# Altium footprint library R20_PCBM.PcbLib: 22 footprints (part 3 of 5)
Each footprint in its own frame and in the unit in brackets; x right, y up, seen from the top. Pads: shape width x height; smd on the part's side, far side on the other; paste and mask are expansions set on the pad; w line width, h text height; cw(c..) or ccw(c..) is an arc to the next point about the centre after c.
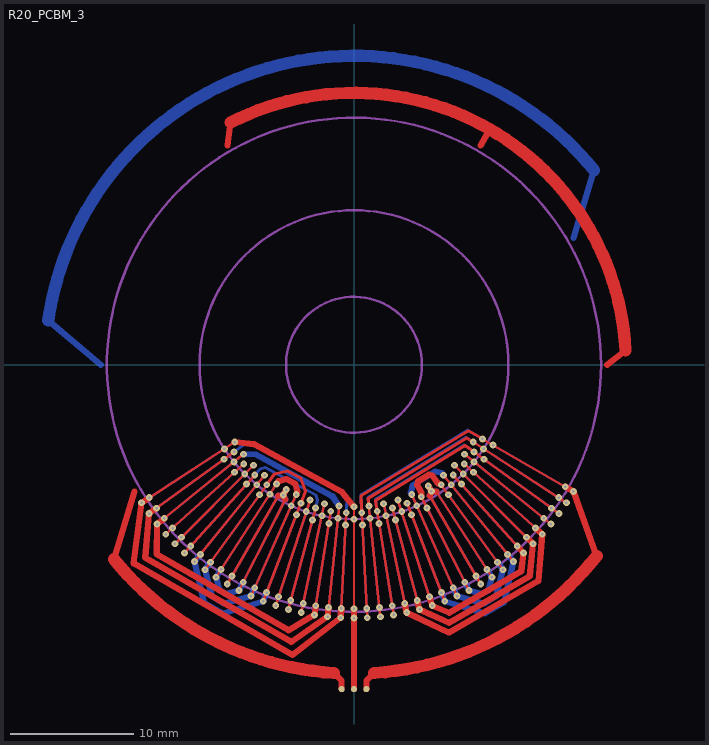
[diagram p2: the footprint, top view; thin cyan lines are the x and y axes]

## R20_PCBM_3 [mm]
pads (3):
  round 0.5 smd paste-2539.97 mask+0.102: A(1,-26.25) B(0,-26.25) C(-1,-26.25)
via 0,-20.5 diameter 0.55 hole 0.2
via 17.754,-10.25 diameter 0.55 hole 0.2
via 10.25,-17.754 diameter 0.55 hole 0.2
via -10.25,-17.754 diameter 0.55 hole 0.2
via 10.392,-6 diameter 0.55 hole 0.2
via 9.645,-6.263 diameter 0.55 hole 0.2
via 4.3,-11.203 diameter 0.55 hole 0.2
via 1.202,-11.437 diameter 0.55 hole 0.2
via 1.877,-11.852 diameter 0.55 hole 0.2
via 0.628,-11.984 diameter 0.55 hole 0.2
via 2.391,-11.249 diameter 0.55 hole 0.2
via 3.554,-10.937 diameter 0.55 hole 0.2
via 8.918,-8.03 diameter 0.55 hole 0.2
via 8.132,-8.132 diameter 0.55 hole 0.2
via 7.237,-8.937 diameter 0.55 hole 0.2
via 4.677,-10.506 diameter 0.55 hole 0.2
via 7.053,-9.708 diameter 0.55 hole 0.2
via 6.27,-10.232 diameter 0.55 hole 0.2
via 3.106,-11.591 diameter 0.55 hole 0.2
via 5.448,-10.692 diameter 0.55 hole 0.2
via 8.03,-8.918 diameter 0.55 hole 0.2
via 8.937,-7.237 diameter 0.55 hole 0.2
via 2.143,-20.388 diameter 0.55 hole 0.2
via 4.262,-20.052 diameter 0.55 hole 0.2
via 6.335,-19.497 diameter 0.55 hole 0.2
via 8.338,-18.728 diameter 0.55 hole 0.2
via 12.05,-16.585 diameter 0.55 hole 0.2
via 12.901,-15.931 diameter 0.55 hole 0.2
via 11.165,-17.193 diameter 0.55 hole 0.2
via 9.307,-18.266 diameter 0.55 hole 0.2
via 7.347,-19.138 diameter 0.55 hole 0.2
via 5.306,-19.801 diameter 0.55 hole 0.2
via 3.207,-20.248 diameter 0.55 hole 0.2
via 1.073,-20.472 diameter 0.55 hole 0.2
via 13.717,-15.234 diameter 0.55 hole 0.2
via 15.234,-13.717 diameter 0.55 hole 0.2
via 14.496,-14.496 diameter 0.55 hole 0.2
via 15.931,-12.901 diameter 0.55 hole 0.2
via 9.708,-7.053 diameter 0.55 hole 0.2
via 16.585,-12.05 diameter 0.55 hole 0.2
via 17.193,-11.165 diameter 0.55 hole 0.2
via 6.009,-9.805 diameter 0.55 hole 0.2
via -5.487,-10.106 diameter 0.55 hole 0.2
via -5.726,-10.546 diameter 0.55 hole 0.2
via -16.585,-12.05 diameter 0.55 hole 0.2
via -15.234,-13.717 diameter 0.55 hole 0.2
via -13.717,-15.234 diameter 0.55 hole 0.2
via -12.05,-16.585 diameter 0.55 hole 0.2
via -8.338,-18.728 diameter 0.55 hole 0.2
via -7.347,-19.138 diameter 0.55 hole 0.2
via -9.307,-18.266 diameter 0.55 hole 0.2
via -11.165,-17.193 diameter 0.55 hole 0.2
via -12.901,-15.931 diameter 0.55 hole 0.2
via -14.496,-14.496 diameter 0.55 hole 0.2
via -15.931,-12.901 diameter 0.55 hole 0.2
via -17.193,-11.165 diameter 0.55 hole 0.2
via -6.335,-19.497 diameter 0.55 hole 0.2
via -4.262,-20.052 diameter 0.55 hole 0.2
via -5.306,-19.801 diameter 0.55 hole 0.2
via -3.207,-20.248 diameter 0.55 hole 0.2
via -2.143,-20.388 diameter 0.55 hole 0.2
via -1.073,-20.472 diameter 0.55 hole 0.2
via -9.645,-6.263 diameter 0.55 hole 0.2
via -9.708,-7.053 diameter 0.55 hole 0.2
via -8.937,-7.237 diameter 0.55 hole 0.2
via -8.918,-8.03 diameter 0.55 hole 0.2
via -8.132,-8.132 diameter 0.55 hole 0.2
via -8.03,-8.918 diameter 0.55 hole 0.2
via -7.237,-8.937 diameter 0.55 hole 0.2
via -7.053,-9.708 diameter 0.55 hole 0.2
via -6.263,-9.645 diameter 0.55 hole 0.2
via -4.677,-10.506 diameter 0.55 hole 0.2
via -4.3,-11.203 diameter 0.55 hole 0.2
via -3.554,-10.937 diameter 0.55 hole 0.2
via -3.106,-11.591 diameter 0.55 hole 0.2
via -2.391,-11.249 diameter 0.55 hole 0.2
via -1.877,-11.852 diameter 0.55 hole 0.2
via -1.202,-11.437 diameter 0.55 hole 0.2
via -0.628,-11.984 diameter 0.55 hole 0.2
via 0,-11.5 diameter 0.55 hole 0.2
via -9.714,-7.866 diameter 0.55 hole 0.2
via -9.661,-8.699 diameter 0.55 hole 0.2
via -8.839,-8.839 diameter 0.55 hole 0.2
via -8.699,-9.661 diameter 0.55 hole 0.2
via -7.866,-9.714 diameter 0.55 hole 0.2
via -7.641,-10.517 diameter 0.55 hole 0.2
via -6.808,-10.483 diameter 0.55 hole 0.2
via -5.084,-11.419 diameter 0.55 hole 0.2
via -4.659,-12.137 diameter 0.55 hole 0.2
via -3.863,-11.888 diameter 0.55 hole 0.2
via -3.365,-12.557 diameter 0.55 hole 0.2
via -2.599,-12.227 diameter 0.55 hole 0.2
via -2.034,-12.84 diameter 0.55 hole 0.2
via -1.307,-12.431 diameter 0.55 hole 0.2
via -0.68,-12.982 diameter 0.55 hole 0.2
via 0,-12.5 diameter 0.55 hole 0.2
via 0.68,-12.982 diameter 0.55 hole 0.2
via 1.307,-12.431 diameter 0.55 hole 0.2
via 2.034,-12.84 diameter 0.55 hole 0.2
via 2.599,-12.227 diameter 0.55 hole 0.2
via 3.365,-12.557 diameter 0.55 hole 0.2
via 3.863,-11.888 diameter 0.55 hole 0.2
via 4.659,-12.137 diameter 0.55 hole 0.2
via 5.084,-11.419 diameter 0.55 hole 0.2
via 5.902,-11.583 diameter 0.55 hole 0.2
via 7.641,-10.517 diameter 0.55 hole 0.2
via -10.517,-7.641 diameter 0.55 hole 0.2
via -10.483,-6.808 diameter 0.55 hole 0.2
via -16.564,-10.757 diameter 0.55 hole 0.2
via -15.978,-11.609 diameter 0.55 hole 0.2
via -15.349,-12.429 diameter 0.55 hole 0.2
via -14.677,-13.215 diameter 0.55 hole 0.2
via -13.965,-13.965 diameter 0.55 hole 0.2
via -13.215,-14.677 diameter 0.55 hole 0.2
via -12.429,-15.349 diameter 0.55 hole 0.2
via -11.609,-15.978 diameter 0.55 hole 0.2
via -10.757,-16.564 diameter 0.55 hole 0.2
via -9.875,-17.104 diameter 0.55 hole 0.2
via -8.966,-17.597 diameter 0.55 hole 0.2
via -8.033,-18.042 diameter 0.55 hole 0.2
via -7.078,-18.438 diameter 0.55 hole 0.2
via -6.103,-18.783 diameter 0.55 hole 0.2
via -5.112,-19.077 diameter 0.55 hole 0.2
via -4.106,-19.318 diameter 0.55 hole 0.2
via -3.09,-19.507 diameter 0.55 hole 0.2
via -2.064,-19.642 diameter 0.55 hole 0.2
via -1.034,-19.723 diameter 0.55 hole 0.2
via 0,-19.75 diameter 0.55 hole 0.2
via 1.034,-19.723 diameter 0.55 hole 0.2
via 2.064,-19.642 diameter 0.55 hole 0.2
via 3.09,-19.507 diameter 0.55 hole 0.2
via 4.106,-19.318 diameter 0.55 hole 0.2
via 5.112,-19.077 diameter 0.55 hole 0.2
via 6.103,-18.783 diameter 0.55 hole 0.2
via 7.078,-18.438 diameter 0.55 hole 0.2
via 8.033,-18.042 diameter 0.55 hole 0.2
via 8.966,-17.597 diameter 0.55 hole 0.2
via 9.875,-17.104 diameter 0.55 hole 0.2
via 10.757,-16.564 diameter 0.55 hole 0.2
via 11.609,-15.978 diameter 0.55 hole 0.2
via 12.429,-15.349 diameter 0.55 hole 0.2
via 13.215,-14.677 diameter 0.55 hole 0.2
via 13.965,-13.965 diameter 0.55 hole 0.2
via 14.677,-13.215 diameter 0.55 hole 0.2
via 15.349,-12.429 diameter 0.55 hole 0.2
via 15.978,-11.609 diameter 0.55 hole 0.2
via 16.564,-10.757 diameter 0.55 hole 0.2
via 17.104,-9.875 diameter 0.55 hole 0.2
via 7.866,-9.714 diameter 0.55 hole 0.2
via 8.699,-9.661 diameter 0.55 hole 0.2
via 8.839,-8.839 diameter 0.55 hole 0.2
via 9.661,-8.699 diameter 0.55 hole 0.2
via 9.714,-7.866 diameter 0.55 hole 0.2
via 10.517,-7.641 diameter 0.55 hole 0.2
via 10.483,-6.808 diameter 0.55 hole 0.2
via 11.258,-6.5 diameter 0.55 hole 0.2
Top Layer:
  lines w0.2: -17.193,-11.165 -9.645,-6.263 ; -16.585,-12.05 -9.708,-7.053 ; -15.931,-12.901 -8.937,-7.237 ; -15.234,-13.717 -8.918,-8.03 ; -14.496,-14.496 -8.132,-8.132 ; -13.717,-15.234 -8.03,-8.918 ; -12.901,-15.931 -7.237,-8.937 ; -12.05,-16.585 -7.053,-9.708 ; -11.165,-17.193 -6.263,-9.645 ; -10.25,-17.754 -6.125,-10.609 ; -9.307,-18.266 -5.561,-10.915 ; -8.338,-18.728 -4.677,-10.506 ; -7.347,-19.138 -4.3,-11.203 ; -6.335,-19.497 -3.554,-10.937 ; -5.306,-19.801 -3.106,-11.591 ; -4.262,-20.052 -2.391,-11.249 ; -3.207,-20.248 -1.877,-11.852 ; -2.143,-20.388 -1.202,-11.437 ; -1.073,-20.472 -0.628,-11.984 ; 0,-20.5 0,-11.5 ; 0.628,-11.984 1.073,-20.472 ; 1.202,-11.437 2.143,-20.388 ; 1.877,-11.852 3.207,-20.248 ; 2.391,-11.249 4.262,-20.052 ; 3.106,-11.591 5.306,-19.801 ; 3.554,-10.937 6.335,-19.497 ; 4.3,-11.203 7.347,-19.138 ; 4.677,-10.506 8.338,-18.728 ; 5.448,-10.692 9.307,-18.266 ; 6.125,-10.609 10.25,-17.754 ; 6.672,-10.274 11.165,-17.193 ; 7.053,-9.708 12.05,-16.585 ; 7.237,-8.937 12.901,-15.931 ; 8.03,-8.918 13.717,-15.234 ; 8.132,-8.132 14.496,-14.496 ; 8.918,-8.03 15.234,-13.717 ; 8.937,-7.237 15.931,-12.901 ; 9.645,-6.263 17.193,-11.165 ; 9.708,-7.053 16.585,-12.05 ; 10.392,-6 17.754,-10.25
  lines w0.25: -7.053,-9.708 -6.436,-8.858 -5.379,-8.601 -4.308,-9.182 -3.934,-10.249 -4.3,-11.203 ; 0.628,-11.984 0.556,-10.614 9.27,-5.352 10.392,-6 ; 1.202,-11.437 1.137,-10.822 9.126,-5.927 9.645,-6.263 ; 1.877,-11.852 1.739,-10.981 8.995,-6.535 9.708,-7.053
  lines w0.5: -19.429,-15.733 -17.754,-10.25 ; -16.564,-10.757 -17.193,-11.165 -17.835,-16.059 -4.99,-23.475 -1.073,-20.472 -1.034,-19.723 ; -15.978,-11.609 -16.585,-12.05 -16.889,-15.612 -5.076,-22.433 -2.143,-20.388 -2.064,-19.642 ; -15.349,-12.429 -15.931,-12.901 -15.96,-15.323 -5.29,-21.483 -3.207,-20.248 -3.09,-19.507 ; -10.25,17.754 -9.988,19.602 ; -9.645,-6.263 -8.068,-6.435 -1.002,-10.271 0,-11.5 ; -6.263,-9.645 -6.127,-9.435 -5.496,-9.239 -4.755,-9.641 -4.576,-10.277 -4.677,-10.506 ; -6.125,-10.609 -5.726,-10.546 ; -5.561,-10.915 -5.726,-10.546 ; -5.487,-10.106 -5.726,-10.546 ; -1.635,-24.946 -1,-25.582 -1,-26.25 ; 0,-26.25 0,-20.5 0,-20 0,-19.75 ; 1,-26.25 1,-25.581 1.635,-24.946 ; 4.106,-19.318 4.262,-20.052 7.678,-21.681 14.937,-17.489 15.234,-13.717 14.677,-13.215 ; 5.112,-19.077 5.306,-19.801 7.701,-20.875 14.227,-17.107 14.496,-14.496 13.965,-13.965 ; 5.448,-10.692 5.471,-10.399 5.122,-9.735 5.182,-9.432 6.051,-8.9 6.349,-8.983 6.781,-9.596 7.053,-9.708 ; 6.009,-9.805 6.27,-10.232 ; 6.103,-18.783 6.335,-19.497 7.705,-20.072 13.53,-16.709 13.717,-15.234 13.215,-14.677 ; 6.125,-10.609 6.27,-10.232 ; 6.672,-10.274 6.27,-10.232 ; 10.25,17.754 11,19.053 ; 17.104,-9.875 17.753,-10.25 19.633,-15.477 ; 20.5,0 21.97,1.151
  lines w1: -19.429,-15.733 ccw(c0,0) -1.635,-24.946 ; -9.988,19.602 cw(c0,0) 21.97,1.151 ; 1.635,-24.946 ccw(c0,0) 19.633,-15.477
Layer 1:
  lines w0.2: -17.193,-11.165 -9.645,-6.263 ; -16.585,-12.05 -9.708,-7.053 ; -15.931,-12.901 -8.937,-7.237 ; -15.234,-13.717 -8.918,-8.03 ; -14.496,-14.496 -8.132,-8.132 ; -13.717,-15.234 -8.03,-8.918 ; -12.901,-15.931 -7.237,-8.937 ; -12.05,-16.585 -7.053,-9.708 ; -11.165,-17.193 -6.263,-9.645 ; -10.25,-17.754 -6.125,-10.609 ; -9.307,-18.266 -5.561,-10.915 ; -8.338,-18.728 -4.677,-10.506 ; -7.347,-19.138 -4.3,-11.203 ; -6.335,-19.497 -3.708,-11.413 -3.554,-10.937 ; -5.306,-19.801 -3.106,-11.591 ; -4.262,-20.052 -2.391,-11.249 ; -3.207,-20.248 -1.877,-11.852 ; -2.143,-20.388 -1.202,-11.437 ; -1.073,-20.472 -0.628,-11.984 ; 0,-20.5 0,-11.5 ; 0.628,-11.984 1.073,-20.472 ; 1.202,-11.437 2.143,-20.388 ; 1.877,-11.852 3.207,-20.248 ; 2.391,-11.249 4.262,-20.052 ; 3.106,-11.591 5.306,-19.801 ; 3.554,-10.937 6.335,-19.497 ; 4.3,-11.203 7.347,-19.138 ; 4.677,-10.506 8.338,-18.728 ; 5.448,-10.692 9.307,-18.266 ; 6.125,-10.609 10.25,-17.754 ; 6.672,-10.274 11.165,-17.193 ; 7.053,-9.708 12.05,-16.585 ; 7.237,-8.937 12.901,-15.931 ; 8.03,-8.918 13.717,-15.234 ; 8.132,-8.132 14.496,-14.496 ; 8.918,-8.03 15.234,-13.717 ; 8.937,-7.237 15.931,-12.901 ; 9.645,-6.263 17.193,-11.165 ; 9.708,-7.053 16.585,-12.05 ; 10.392,-6 17.754,-10.25
  lines w0.25: -9.708,-7.053 -8.899,-6.466 -7.161,-6.617 -1.649,-9.61 -0.576,-10.985 -0.628,-11.984 ; -8.918,-8.03 -8.175,-7.36 -6.751,-7.343 -2.481,-9.661 -1.721,-10.865 -1.877,-11.852 ; -8.03,-8.918 -7.36,-8.175 -6.566,-7.956 -3.097,-9.84 -2.847,-10.625 -3.106,-11.591 ; 2.391,-11.249 2.183,-10.271 3.17,-9.071 6.643,-6.942 8.16,-6.608 8.937,-7.237 ; 3.106,-11.591 2.808,-10.481 3.483,-9.441 6.612,-7.524 8.175,-7.36 8.918,-8.03 ; 3.554,-10.937 3.414,-10.508 3.941,-9.72 6.748,-8 7.867,-7.867 8.132,-8.132 ; 4.3,-11.203 4.032,-10.503 ; 8.03,-8.918 7.501,-8.33 7.002,-8.372 4.342,-10.002 4.032,-10.503 ; 4.032,-10.503 4.032,-10.503
  lines w0.5: -23.339,8.959 -17.754,10.25 ; -14.677,-13.215 -15.234,-13.717 -14.937,-17.489 -7.678,-21.681 -4.262,-20.052 -4.106,-19.318 ; -13.965,-13.965 -14.496,-14.496 -14.227,-17.107 -7.701,-20.875 -5.306,-19.801 -5.112,-19.077 ; -13.215,-14.677 -13.717,-15.234 -13.53,-16.709 -7.705,-20.072 -6.335,-19.497 -6.103,-18.783 ; -7.237,-8.937 -6.414,-8.722 -3.822,-10.129 -3.554,-10.937 ; -6.125,-10.609 -5.726,-10.546 ; -5.561,-10.915 -5.726,-10.546 ; -5.487,-10.106 -5.726,-10.546 ; 6.009,-9.805 6.27,-10.232 ; 6.125,-10.609 6.27,-10.232 ; 6.672,-10.274 6.27,-10.232 ; 9.264,-23.22 10.25,-17.754 9.875,-17.104
  lines w1: -23.339,8.959 ccw(c0,0) 9.264,-23.22 cw(c0,0) -23.339,8.959
Layer 2:
  lines w0.2: -17.193,-11.165 -9.645,-6.263 ; -16.585,-12.05 -9.708,-7.053 ; -15.931,-12.901 -8.937,-7.237 ; -15.234,-13.717 -8.918,-8.03 ; -14.496,-14.496 -8.132,-8.132 ; -13.717,-15.234 -8.03,-8.918 ; -12.901,-15.931 -7.237,-8.937 ; -12.05,-16.585 -7.053,-9.708 ; -11.165,-17.193 -6.263,-9.645 ; -10.25,-17.754 -6.125,-10.609 ; -9.307,-18.266 -5.561,-10.915 ; -8.338,-18.728 -4.677,-10.506 ; -7.347,-19.138 -4.3,-11.203 ; -6.335,-19.497 -3.554,-10.937 ; -5.306,-19.801 -3.106,-11.591 ; -4.262,-20.052 -2.391,-11.249 ; -3.207,-20.248 -1.877,-11.852 ; -2.143,-20.388 -1.202,-11.437 ; -1.073,-20.472 -0.628,-11.984 ; 0,-20.5 0,-11.5 ; 0.628,-11.984 1.073,-20.472 ; 1.202,-11.437 2.143,-20.388 ; 1.877,-11.852 3.207,-20.248 ; 2.391,-11.249 4.262,-20.052 ; 3.106,-11.591 5.306,-19.801 ; 3.554,-10.937 6.335,-19.497 ; 4.3,-11.203 7.347,-19.138 ; 4.677,-10.506 8.338,-18.728 ; 5.448,-10.692 9.307,-18.266 ; 6.125,-10.609 10.25,-17.754 ; 6.672,-10.274 11.165,-17.193 ; 7.053,-9.708 12.05,-16.585 ; 7.237,-8.937 12.901,-15.931 ; 8.03,-8.918 13.717,-15.234 ; 8.132,-8.132 14.496,-14.496 ; 8.918,-8.03 15.234,-13.717 ; 8.937,-7.237 15.931,-12.901 ; 9.645,-6.263 17.193,-11.165 ; 9.708,-7.053 16.585,-12.05 ; 10.392,-6 17.754,-10.25
  lines w0.25: -8.918,-8.03 -8.175,-7.36 -6.649,-7.341 -2.536,-9.574 -1.721,-10.865 -1.877,-11.852 ; -7.053,-9.708 -6.663,-9.171 -6.136,-9.042 -4.242,-10.07 -4.062,-10.583 -4.3,-11.203 ; 2.391,-11.249 2.183,-10.271 3.17,-9.071 6.643,-6.942 8.16,-6.608 8.937,-7.237 ; 3.106,-11.591 2.808,-10.481 3.483,-9.441 6.612,-7.524 8.175,-7.36 8.918,-8.03 ; 3.554,-10.937 3.414,-10.508 3.941,-9.72 6.748,-8 7.867,-7.867 8.132,-8.132 ; 4.3,-11.203 4.032,-10.503 4.342,-10.002 7.002,-8.372 7.501,-8.33 8.03,-8.918
  lines w0.5: -15.477,-19.633 -10.25,-17.754 -9.875,-17.104 ; -8.132,-8.132 -6.635,-8.061 -3.147,-9.955 -2.391,-11.249 ; -6.125,-10.609 -5.726,-10.546 ; -5.561,-10.915 -5.726,-10.546 ; -5.487,-10.106 -5.726,-10.546 ; -3.911,24.692 0,20.5 ; 1.034,-19.723 1.073,-20.472 4.99,-23.475 17.835,-16.059 17.193,-11.165 16.564,-10.757 ; 2.064,-19.642 2.143,-20.388 5.076,-22.433 16.889,-15.612 16.585,-12.05 15.978,-11.609 ; 3.09,-19.507 3.207,-20.248 5.29,-21.483 15.96,-15.323 15.931,-12.901 15.349,-12.429 ; 6.009,-9.805 6.27,-10.232 ; 6.125,-10.609 6.27,-10.232 ; 6.672,-10.274 6.27,-10.232
  lines w1: -15.477,-19.633 cw(c0,0) -3.911,24.692 ccw(c0,0) -15.477,-19.633
Bottom Layer:
  lines w0.2: -17.193,-11.165 -9.645,-6.263 ; -16.585,-12.05 -9.708,-7.053 ; -15.931,-12.901 -8.937,-7.237 ; -15.234,-13.717 -8.918,-8.03 ; -14.496,-14.496 -8.132,-8.132 ; -13.717,-15.234 -8.03,-8.918 ; -12.901,-15.931 -7.237,-8.937 ; -12.05,-16.585 -7.053,-9.708 ; -11.165,-17.193 -6.263,-9.645 ; -10.25,-17.754 -6.125,-10.609 ; -9.307,-18.266 -5.561,-10.915 ; -8.338,-18.728 -4.677,-10.506 ; -7.347,-19.138 -4.3,-11.203 ; -6.335,-19.497 -3.554,-10.937 ; -5.306,-19.801 -3.106,-11.591 ; -4.262,-20.052 -2.391,-11.249 ; -3.207,-20.248 -1.877,-11.852 ; -2.143,-20.388 -1.202,-11.437 ; -1.073,-20.472 -0.628,-11.984 ; 0,-20.5 0,-11.5 ; 0.628,-11.984 1.073,-20.472 ; 1.202,-11.437 2.143,-20.388 ; 1.877,-11.852 3.207,-20.248 ; 2.391,-11.249 4.262,-20.052 ; 3.106,-11.591 5.306,-19.801 ; 3.554,-10.937 6.335,-19.497 ; 4.3,-11.203 7.347,-19.138 ; 4.677,-10.506 8.338,-18.728 ; 5.448,-10.692 9.307,-18.266 ; 6.125,-10.609 10.25,-17.754 ; 6.672,-10.274 11.165,-17.193 ; 7.053,-9.708 12.05,-16.585 ; 7.237,-8.937 12.901,-15.931 ; 8.03,-8.918 13.717,-15.234 ; 8.132,-8.132 14.496,-14.496 ; 8.918,-8.03 15.234,-13.717 ; 8.937,-7.237 15.931,-12.901 ; 9.645,-6.263 17.193,-11.165 ; 9.708,-7.053 16.585,-12.05 ; 10.392,-6 17.754,-10.25
  lines w0.25: -9.708,-7.053 -8.899,-6.466 -8.029,-6.541 -1.113,-10.296 -0.576,-10.985 -0.628,-11.984 ; -8.03,-8.918 -7.596,-8.436 -7.19,-8.324 -3.065,-10.564 -2.938,-10.965 -3.106,-11.591 ; 0.628,-11.984 0.551,-10.52 9.188,-5.305 10.392,-6 ; 1.202,-11.437 1.128,-10.735 9.053,-5.879 9.645,-6.263 ; 1.877,-11.852 1.725,-10.89 8.92,-6.481 9.708,-7.053
  lines w0.5: -24.741,3.587 -20.5,0 ; -12.429,-15.349 -12.901,-15.931 -12.14,-19.24 -10.593,-20.133 -7.347,-19.138 -7.078,-18.438 ; -11.609,-15.978 -12.05,-16.585 -11.495,-18.758 -10.497,-19.334 -8.338,-18.728 -8.033,-18.042 ; -10.757,-16.564 -11.165,-17.193 -10.865,-18.262 -10.383,-18.541 -9.307,-18.266 -8.966,-17.597 ; -8.937,-7.237 -7.96,-7.26 -1.754,-10.63 -1.202,-11.437 ; -6.125,-10.609 -5.726,-10.546 ; -5.561,-10.915 -5.726,-10.546 ; -5.487,-10.106 -5.726,-10.546 ; 4.677,-10.506 4.599,-10.328 4.723,-9.773 6.579,-8.635 7.101,-8.769 7.237,-8.937 ; 6.009,-9.805 6.27,-10.232 ; 6.125,-10.609 6.27,-10.232 ; 6.672,-10.274 6.27,-10.232 ; 7.078,-18.438 7.347,-19.138 10.593,-20.133 12.14,-19.24 12.901,-15.931 12.429,-15.349 ; 8.033,-18.042 8.338,-18.728 10.497,-19.334 11.495,-18.758 12.05,-16.585 11.609,-15.978 ; 8.966,-17.597 9.307,-18.266 10.383,-18.541 10.865,-18.262 11.165,-17.193 10.757,-16.564 ; 17.754,10.25 19.429,15.733
  lines w1: -24.741,3.587 cw(c0,0) 19.429,15.733 ccw(c0,0) -24.741,3.587
Mechanical 1:
  circle w0.2: c0,0 r5.5
  circle w0.2: c0,0 r20
  circle w0.2: c0,0 r12.5